# EAGLE library part 70543-06 (library con-molex-c-grid)
C-Grid SL
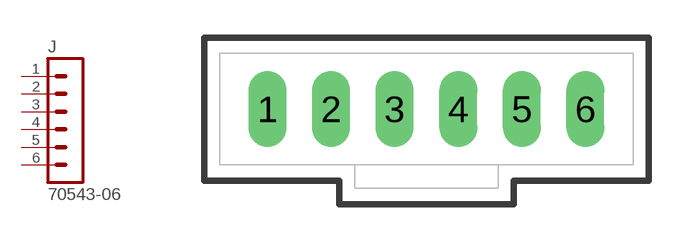
[diagram p0: symbol with the pads of 70543-06; footprint 70543-06]

Designator prefix J

## 70543-06  [70543-06]
1  1  pas
2  2  pas
3  3  pas
4  4  pas
5  5  pas
6  6  pas

## Footprint 70543-06 (pad centres in mm)
C-Grid SL vertical
drill 1.016 long: 1 -6.35,0; 2 -3.81,0; 3 -1.27,0; 4 1.27,0; 5 3.81,0; 6 6.35,0